# Altium schematic symbol library ISO6721FBQDRQ1.Schlib: 1 symbol
Pins are listed as number, name and electrical type; pins without a type are passive.

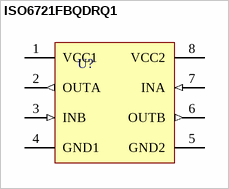
[diagram p0: symbol ISO6721FBQDRQ1]

## ISO6721FBQDRQ1
designator U?
Dual-Channel Automotive Capacitive Digital Isolators
pins: 1 VCC1, 2 OUTA (out), 3 INB (in), 4 GND1 (power), 5 GND2, 6 OUTB (out), 7 INA (in), 8 VCC2